# EAGLE library part DP83848 (library national-semiconductor)
PHYTER® - Extended Temperature Single Port 10/100 Mb/s Ethernet Physical Layer Transceiver Auto generated by make-symbol-device-package-bsdl.ulp Rev. 34 Source: dp83848yb.bsdl http://www.national.com/ds/DP/DP83848VYB.pdf
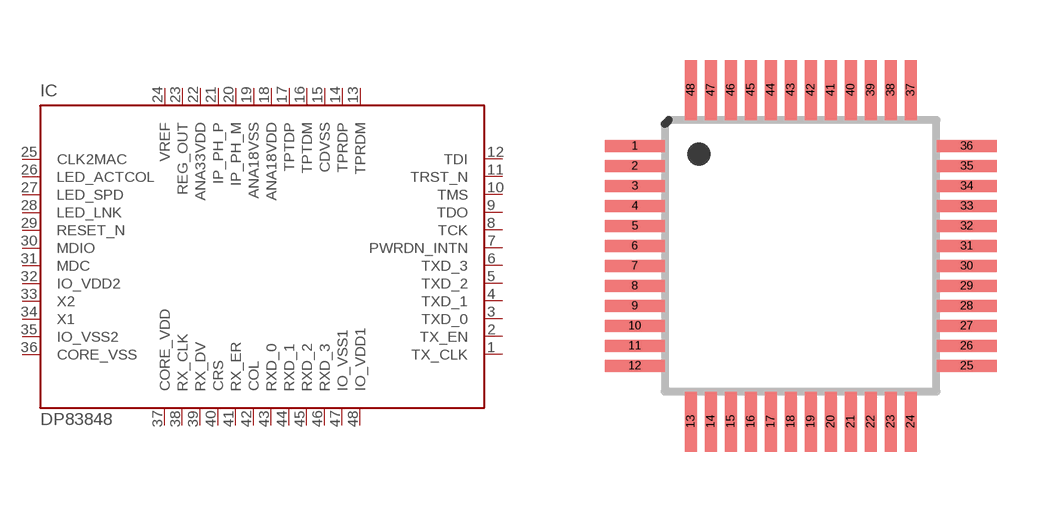
[diagram p5: symbol with the pads of LQFP48; footprint LQFP48]

Designator prefix IC

## DP83848 (MPN: DP83848VYB; OC_FARNELL: 1286817; OC_NEWARK: 11N4484)  [LQFP48]
1  TX_CLK
2  TX_EN
3  TXD_0
4  TXD_1
5  TXD_2
6  TXD_3
7  PWRDN_INTN
8  TCK  in
9  TDO  out
10  TMS  in
11  TRST_N  in
12  TDI  in
13  TPRDM
14  TPRDP
15  CDVSS  pwr
16  TPTDM
17  TPTDP
18  ANA18VDD  pwr
19  ANA18VSS  pwr
20  IP_PH_M  in
21  IP_PH_P  in
22  ANA33VDD  pwr
23  REG_OUT  out
24  VREF
25  CLK2MAC
26  LED_ACTCOL
27  LED_SPD
28  LED_LNK
29  RESET_N  in
30  MDIO
31  MDC  in
32  IO_VDD2  pwr
33  X2  out
34  X1  in
35  IO_VSS2  pwr
36  CORE_VSS  pwr
37  CORE_VDD  pwr
38  RX_CLK
39  RX_DV
40  CRS
41  RX_ER
42  COL
43  RXD_0
44  RXD_1
45  RXD_2
46  RXD_3
47  IO_VSS1  pwr
48  IO_VDD1  pwr

## Footprint LQFP48 (pad centres in mm)
LQFP48 VXH48A Auto generated by make-symbol-device-package-bsdl.ulp Rev. 34 Source: http://www.national.com/ds/DP/DP83848VYB.pdf
smd 1.5 x 0.3: 1 -4.15,2.75; 2 -4.15,2.25; 3 -4.15,1.75; 4 -4.15,1.25; 5 -4.15,0.75; 6 -4.15,0.25; 7 -4.15,-0.25; 8 -4.15,-0.75; 9 -4.15,-1.25; 10 -4.15,-1.75; 11 -4.15,-2.25; 12 -4.15,-2.75; 25 4.15,-2.75; 26 4.15,-2.25; 27 4.15,-1.75; 28 4.15,-1.25; 29 4.15,-0.75; 30 4.15,-0.25; 31 4.15,0.25; 32 4.15,0.75; 33 4.15,1.25; 34 4.15,1.75; 35 4.15,2.25; 36 4.15,2.75
smd 0.3 x 1.5: 13 -2.75,-4.15; 14 -2.25,-4.15; 15 -1.75,-4.15; 16 -1.25,-4.15; 17 -0.75,-4.15; 18 -0.25,-4.15; 19 0.25,-4.15; 20 0.75,-4.15; 21 1.25,-4.15; 22 1.75,-4.15; 23 2.25,-4.15; 24 2.75,-4.15; 37 2.75,4.15; 38 2.25,4.15; 39 1.75,4.15; 40 1.25,4.15; 41 0.75,4.15; 42 0.25,4.15; 43 -0.25,4.15; 44 -0.75,4.15; 45 -1.25,4.15; 46 -1.75,4.15; 47 -2.25,4.15; 48 -2.75,4.15